# EAGLE library part USB2.0-A_DOUBLE (library Public)
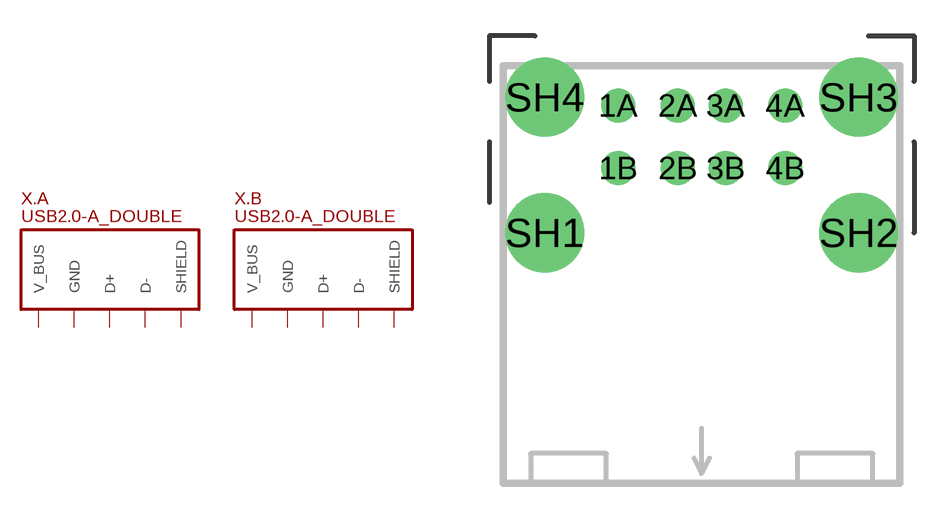
[diagram p130: symbol with the pads of USB-A_USB1035; footprint USB-A_USB1035]

Designator prefix X; gates .A=USB2.0 .B=USB2.0

## USB2.0-A_DOUBLE (VALUE: USB2.0-A)  [USB-A_USB1035]
1A  .A:V_BUS
1B  .B:V_BUS
2A  .A:D-
2B  .B:D-
3A  .A:D+
3B  .B:D+
4A  .A:GND
4B  .B:GND
SH1  .A:SHIELD
SH2  .A:SHIELD
SH3  .B:SHIELD
SH4  .B:SHIELD

## Footprint USB-A_USB1035 (pad centres in mm)
drill 0.92: 1A -3.5,5.33; 1B -3.5,2.71; 2A -1,5.33; 2B -1,2.71; 3A 1,5.33; 3B 1,2.71; 4A 3.5,5.33; 4B 3.5,2.71
drill 2.3: SH1 -6.57,0; SH2 6.57,0; SH3 6.57,5.68; SH4 -6.57,5.68